# EAGLE library part M95256-DRMN3TP/K (library Memory)
IC EEPROM 256K SPI 20MHZ 8SO Manufacturer's datasheet <https://www.st.com/content/ccc/resource/technical/document/datasheet/a8/f6/88/7c/3d/0b/4d/19/DM00048493.pdf/files/DM00048493.pdf/jcr:content/translations/en.DM00048493.pdf>
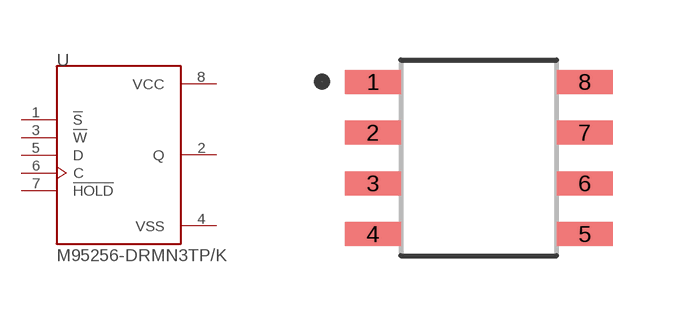
[diagram p0: symbol with the pads of SO8; footprint SO8]

Designator prefix U

## M95256-DRMN3TP/K (CREATED_BY: PCBLayout.com; DIGIKEY_PARTNO: 497-14452-2-ND; MANUFACTURER: STMicroelectronics; MPN: M95256-DRMN3TP/K; PACKAGE: SO-8)  [SO8]
1  !S  in
2  Q  out
3  !W  in
4  VSS  pwr
5  D  in
6  C  in
7  !HOLD  in
8  VCC  pwr

## Footprint SO8 (pad centres in mm)
smd 1.4 x 0.6: 1 -2.65,1.905; 2 -2.65,0.635; 3 -2.65,-0.635; 4 -2.65,-1.905; 5 2.65,-1.905; 6 2.65,-0.635; 7 2.65,0.635; 8 2.65,1.905